# EAGLE library part MEC1-150-02-XX-D (library con-samtec-mec1)
1MM MINI-EDGE CARD ASSEMBLY. MANUFACTURER: SAMTEC.
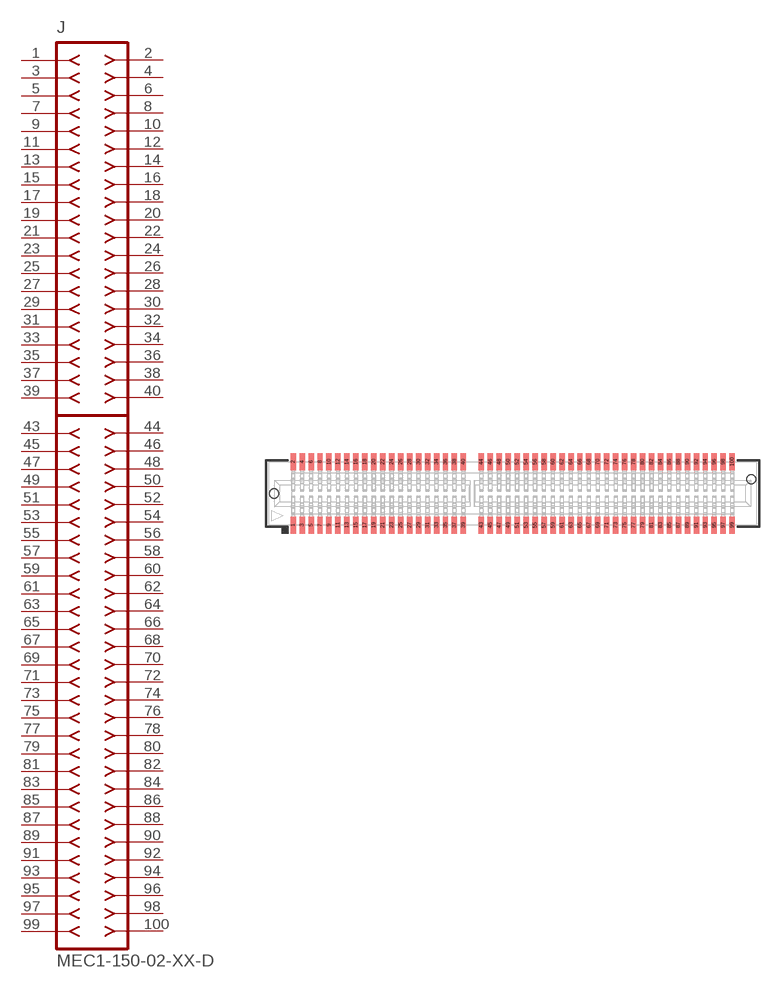
[diagram p0: symbol with the pads of MEC1-150-02-XX-D; footprint MEC1-150-02-XX-D]

Designator prefix J

## MEC1-150-02-XX-D  [MEC1-150-02-XX-D]
1  1
2  2
3  3
4  4
5  5
6  6
7  7
8  8
9  9
10  10
11  11
12  12
13  13
14  14
15  15
16  16
17  17
18  18
19  19
20  20
21  21
22  22
23  23
24  24
25  25
26  26
27  27
28  28
29  29
30  30
31  31
32  32
33  33
34  34
35  35
36  36
37  37
38  38
39  39
40  40
43  43
44  44
45  45
46  46
47  47
48  48
49  49
50  50
51  51
52  52
53  53
54  54
55  55
56  56
57  57
58  58
59  59
60  60
61  61
62  62
63  63
64  64
65  65
66  66
67  67
68  68
69  69
70  70
71  71
72  72
73  73
74  74
75  75
76  76
77  77
78  78
79  79
80  80
81  81
82  82
83  83
84  84
85  85
86  86
87  87
88  88
89  89
90  90
91  91
92  92
93  93
94  94
95  95
96  96
97  97
98  98
99  99
100  100

## Footprint MEC1-150-02-XX-D (pad centres in mm)
1MM MINI-EDGE CARD ASSEMBLY. MANUFACTURER: SAMTEC.
smd 0.61 x 1.88: 1 -24.5,-3.53; 2 -24.5,3.53; 3 -23.5,-3.53; 4 -23.5,3.53; 5 -22.5,-3.53; 6 -22.5,3.53; 7 -21.5,-3.53; 8 -21.5,3.53; 9 -20.5,-3.53; 10 -20.5,3.53; 11 -19.5,-3.53; 12 -19.5,3.53; 13 -18.5,-3.53; 14 -18.5,3.53; 15 -17.5,-3.53; 16 -17.5,3.53; 17 -16.5,-3.53; 18 -16.5,3.53; 19 -15.5,-3.53; 20 -15.5,3.53; 21 -14.5,-3.53; 22 -14.5,3.53; 23 -13.5,-3.53; 24 -13.5,3.53; 25 -12.5,-3.53; 26 -12.5,3.53; 27 -11.5,-3.53; 28 -11.5,3.53; 29 -10.5,-3.53; 30 -10.5,3.53; 31 -9.5,-3.53; 32 -9.5,3.53; 33 -8.5,-3.53; 34 -8.5,3.53; 35 -7.5,-3.53; 36 -7.5,3.53; 37 -6.5,-3.53; 38 -6.5,3.53; 39 -5.5,-3.53; 40 -5.5,3.53; 43 -3.5,-3.53; 44 -3.5,3.53; 45 -2.5,-3.53; 46 -2.5,3.53; 47 -1.5,-3.53; 48 -1.5,3.53; 49 -0.5,-3.53; 50 -0.5,3.53; 51 0.5,-3.53; 52 0.5,3.53; 53 1.5,-3.53; 54 1.5,3.53; 55 2.5,-3.53; 56 2.5,3.53; 57 3.5,-3.53; 58 3.5,3.53; 59 4.5,-3.53; 60 4.5,3.53; 61 5.5,-3.53; 62 5.5,3.53; 63 6.5,-3.53; 64 6.5,3.53; 65 7.5,-3.53; 66 7.5,3.53; 67 8.5,-3.53; 68 8.5,3.53; 69 9.5,-3.53; 70 9.5,3.53; 71 10.5,-3.53; 72 10.5,3.53; 73 11.5,-3.53; 74 11.5,3.53; 75 12.5,-3.53; 76 12.5,3.53; 77 13.5,-3.53; 78 13.5,3.53; 79 14.5,-3.53; 80 14.5,3.53; 81 15.5,-3.53; 82 15.5,3.53; 83 16.5,-3.53; 84 16.5,3.53; 85 17.5,-3.53; 86 17.5,3.53; 87 18.5,-3.53; 88 18.5,3.53; 89 19.5,-3.53; 90 19.5,3.53; 91 20.5,-3.53; 92 20.5,3.53; 93 21.5,-3.53; 94 21.5,3.53; 95 22.5,-3.53; 96 22.5,3.53; 97 23.5,-3.53; 98 23.5,3.53; 99 24.5,-3.53; 100 24.5,3.53
hole 1.02 at -26.622,0
hole 1.02 at 26.622,1.588